# Altium integrated library Zilog Peripheral Bus Interface Controller.IntLib: 29 symbols
Pins are listed as number, name and electrical type; pins without a type are passive.

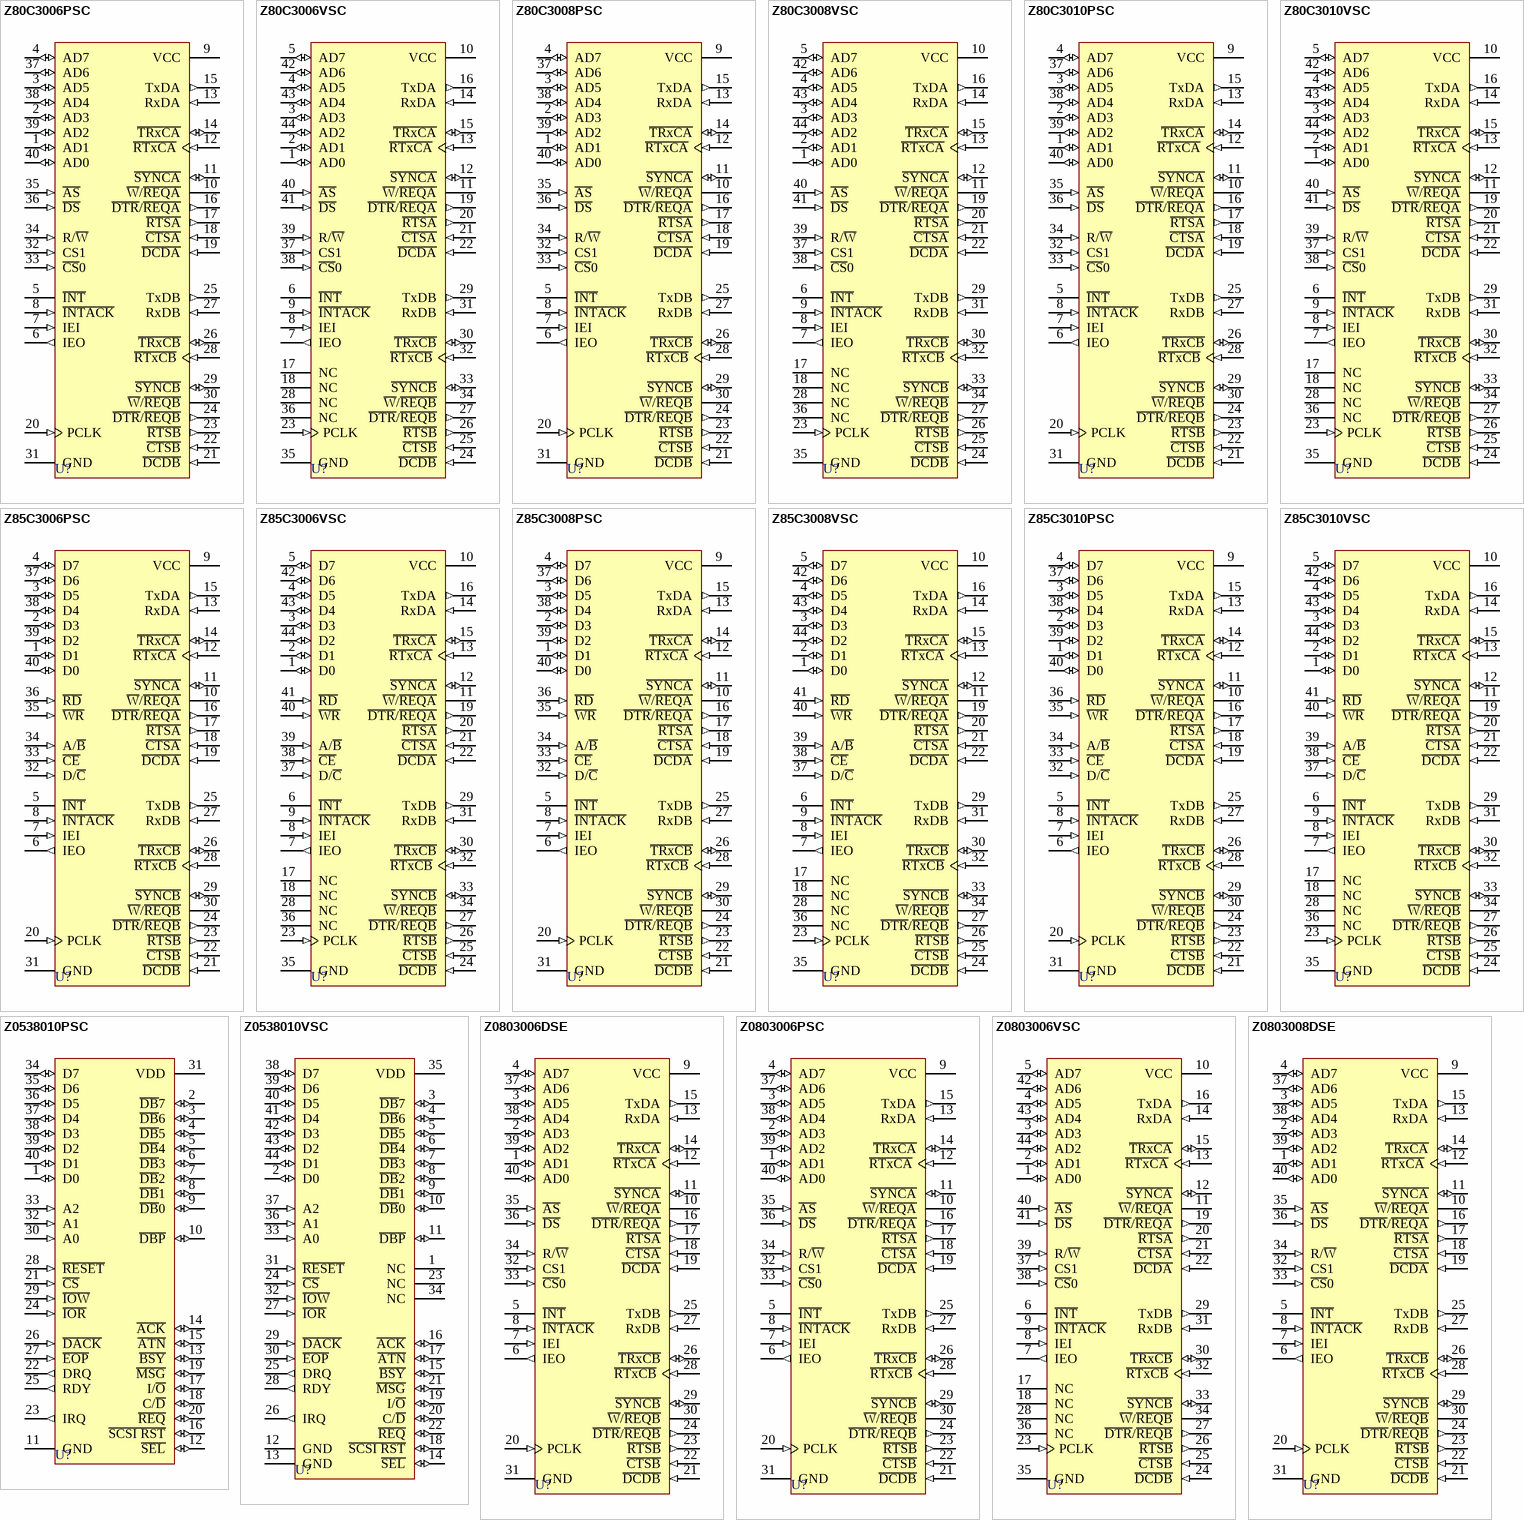
[diagram p0: symbols Z80C3006PSC to Z0803008DSE]

## Z80C3006PSC
designator U?
CMOS Z-Bus Serial Communications Controller; Published: 15-Apr-2002; LatestRevisionDate: 04-Mar-2005; LatestRevisionNote: Stylized 3D Model Added.; DatasheetVersion: 2001; PackageVersion: Jun-1999; PackageReference: PDIP40; Publisher: Altium Limited; PackageDescription: DIP; 40 Leads; Row Spacing 15.24 mm; Pitch 2.54 mm; ComponentLink1Description: Manufacturer Link; ComponentLink1URL: http://www.zilog.com/; ComponentLink2Description: Datasheet; ComponentLink2URL: http://www.zilog.com/docs/serial/scc_escc_um.pdf
footprint PDIP40 (DIP; 40 Leads; Row Spacing 15.24 mm; Pitch 2.54 mm)
3D model PDIP40 (DIP; 40 Leads; Row Spacing 15.24 mm; Pitch 2.54 mm)
pins: 1 AD1 (io), 2 AD3 (io), 3 AD5 (io), 4 AD7 (io), 5 ~{INT} (oc), 6 IEO (out), 7 IEI (in), 8 ~{INTACK} (in), 9 VCC (power), 10 ~{W}/~{REQA} (oc), 11 ~{SYNCA} (io), 12 ~{RTxCA} (in), 13 RxDA (in), 14 ~{TRxCA} (io), 15 TxDA (out), 16 ~{DTR}/~{REQA} (out), 17 ~{RTSA} (out), 18 ~{CTSA} (in), 19 ~{DCDA} (in), 20 PCLK (in), 21 ~{DCDB} (in), 22 ~{CTSB} (in), 23 ~{RTSB} (out), 24 ~{DTR}/~{REQB} (out), 25 TxDB (out), 26 ~{TRxCB} (io), 27 RxDB (in), 28 ~{RTxCB} (in), 29 ~{SYNCB} (io), 30 ~{W}/~{REQB} (oc), 31 GND (power), 32 CS1 (in), 33 ~{CS}0 (in), 34 R/~{W} (in), 35 ~{AS} (in), 36 ~{DS} (in), 37 AD6 (io), 38 AD4 (io), 39 AD2 (io), 40 AD0 (io)

## Z80C3006VSC
designator U?
CMOS Z-Bus Serial Communications Controller; Published: 15-Apr-2002; LatestRevisionDate: 13-Apr-2006; LatestRevisionNote: IPC-7351 Footprint Added.; DatasheetVersion: 2001; PackageReference: PCC44; Publisher: Altium Limited; PackageDescription: 44-Pin Leaded Chip Carrier 1.27 mm Pitch; Code_IPC: PLCC-44; ComponentLink1Description: Manufacturer Link; ComponentLink1URL: http://www.zilog.com/; ComponentLink2Description: Datasheet; ComponentLink2URL: http://www.zilog.com/docs/serial/scc_escc_um.pdf
footprint PCC44_N (Leaded Chip Carrier, 44-Leads, Body 16.6x16.6mm, Pitch 1.27mm, IPC Medium Density)
footprint PCC44_L (Leaded Chip Carrier, 44-Leads, Body 16.6x16.6mm, Pitch 1.27mm, IPC High Density)
footprint PCC44_M (Leaded Chip Carrier, 44-Leads, Body 16.6x16.6mm, Pitch 1.27mm, IPC Low Density)
3D model Z80C30-PCC44 (44-Pin Leaded Chip Carrier 1.27 mm Pitch)
pins: 1 AD0 (io), 2 AD1 (io), 3 AD3 (io), 4 AD5 (io), 5 AD7 (io), 6 ~{INT} (oc), 7 IEO (out), 8 IEI (in), 9 ~{INTACK} (in), 10 VCC (power), 11 ~{W}/~{REQA} (oc), 12 ~{SYNCA} (io), 13 ~{RTxCA} (in), 14 RxDA (in), 15 ~{TRxCA} (io), 16 TxDA (out), 17 NC, 18 NC, 19 ~{DTR}/~{REQA} (out), 20 ~{RTSA} (out), 21 ~{CTSA} (in), 22 ~{DCDA} (in), 23 PCLK (in), 24 ~{DCDB} (in), 25 ~{CTSB} (in), 26 ~{RTSB} (out), 27 ~{DTR}/~{REQB} (out), 28 NC, 29 TxDB (out), 30 ~{TRxCB} (io), 31 RxDB (in), 32 ~{RTxCB} (in), 33 ~{SYNCB} (io), 34 ~{W}/~{REQB} (oc), 35 GND (power), 36 NC, 37 CS1 (in), 38 ~{CS}0 (in), 39 R/~{W} (in), 40 ~{AS} (in), 41 ~{DS} (in), 42 AD6 (io), 43 AD4 (io), 44 AD2 (io)

## Z80C3008PSC
designator U?
CMOS Z-Bus Serial Communications Controller; Published: 15-Apr-2002; LatestRevisionDate: 04-Mar-2005; LatestRevisionNote: Stylized 3D Model Added.; DatasheetVersion: 2001; PackageVersion: Jun-1999; PackageReference: PDIP40; Publisher: Altium Limited; PackageDescription: DIP; 40 Leads; Row Spacing 15.24 mm; Pitch 2.54 mm; ComponentLink1Description: Manufacturer Link; ComponentLink1URL: http://www.zilog.com/; ComponentLink2Description: Datasheet; ComponentLink2URL: http://www.zilog.com/docs/serial/scc_escc_um.pdf
footprint PDIP40 (DIP; 40 Leads; Row Spacing 15.24 mm; Pitch 2.54 mm)
3D model PDIP40 (DIP; 40 Leads; Row Spacing 15.24 mm; Pitch 2.54 mm)
pins: 1 AD1 (io), 2 AD3 (io), 3 AD5 (io), 4 AD7 (io), 5 ~{INT} (oc), 6 IEO (out), 7 IEI (in), 8 ~{INTACK} (in), 9 VCC (power), 10 ~{W}/~{REQA} (oc), 11 ~{SYNCA} (io), 12 ~{RTxCA} (in), 13 RxDA (in), 14 ~{TRxCA} (io), 15 TxDA (out), 16 ~{DTR}/~{REQA} (out), 17 ~{RTSA} (out), 18 ~{CTSA} (in), 19 ~{DCDA} (in), 20 PCLK (in), 21 ~{DCDB} (in), 22 ~{CTSB} (in), 23 ~{RTSB} (out), 24 ~{DTR}/~{REQB} (out), 25 TxDB (out), 26 ~{TRxCB} (io), 27 RxDB (in), 28 ~{RTxCB} (in), 29 ~{SYNCB} (io), 30 ~{W}/~{REQB} (oc), 31 GND (power), 32 CS1 (in), 33 ~{CS}0 (in), 34 R/~{W} (in), 35 ~{AS} (in), 36 ~{DS} (in), 37 AD6 (io), 38 AD4 (io), 39 AD2 (io), 40 AD0 (io)

## Z80C3008VSC
designator U?
CMOS Z-Bus Serial Communications Controller; Published: 15-Apr-2002; LatestRevisionDate: 13-Apr-2006; LatestRevisionNote: IPC-7351 Footprint Added.; DatasheetVersion: 2001; PackageReference: PCC44; Publisher: Altium Limited; PackageDescription: 44-Pin Leaded Chip Carrier 1.27 mm Pitch; Code_IPC: PLCC-44; ComponentLink1Description: Manufacturer Link; ComponentLink1URL: http://www.zilog.com/; ComponentLink2Description: Datasheet; ComponentLink2URL: http://www.zilog.com/docs/serial/scc_escc_um.pdf
footprint PCC44_N (Leaded Chip Carrier, 44-Leads, Body 16.6x16.6mm, Pitch 1.27mm, IPC Medium Density)
footprint PCC44_L (Leaded Chip Carrier, 44-Leads, Body 16.6x16.6mm, Pitch 1.27mm, IPC High Density)
footprint PCC44_M (Leaded Chip Carrier, 44-Leads, Body 16.6x16.6mm, Pitch 1.27mm, IPC Low Density)
3D model Z80C30-PCC44 (44-Pin Leaded Chip Carrier 1.27 mm Pitch)
pins: 1 AD0 (io), 2 AD1 (io), 3 AD3 (io), 4 AD5 (io), 5 AD7 (io), 6 ~{INT} (oc), 7 IEO (out), 8 IEI (in), 9 ~{INTACK} (in), 10 VCC (power), 11 ~{W}/~{REQA} (oc), 12 ~{SYNCA} (io), 13 ~{RTxCA} (in), 14 RxDA (in), 15 ~{TRxCA} (io), 16 TxDA (out), 17 NC, 18 NC, 19 ~{DTR}/~{REQA} (out), 20 ~{RTSA} (out), 21 ~{CTSA} (in), 22 ~{DCDA} (in), 23 PCLK (in), 24 ~{DCDB} (in), 25 ~{CTSB} (in), 26 ~{RTSB} (out), 27 ~{DTR}/~{REQB} (out), 28 NC, 29 TxDB (out), 30 ~{TRxCB} (io), 31 RxDB (in), 32 ~{RTxCB} (in), 33 ~{SYNCB} (io), 34 ~{W}/~{REQB} (oc), 35 GND (power), 36 NC, 37 CS1 (in), 38 ~{CS}0 (in), 39 R/~{W} (in), 40 ~{AS} (in), 41 ~{DS} (in), 42 AD6 (io), 43 AD4 (io), 44 AD2 (io)

## Z80C3010PSC
designator U?
CMOS Z-Bus Serial Communications Controller; Published: 15-Apr-2002; LatestRevisionDate: 04-Mar-2005; LatestRevisionNote: Stylized 3D Model Added.; DatasheetVersion: 2001; PackageVersion: Jun-1999; PackageReference: PDIP40; Publisher: Altium Limited; PackageDescription: DIP; 40 Leads; Row Spacing 15.24 mm; Pitch 2.54 mm; ComponentLink1Description: Manufacturer Link; ComponentLink1URL: http://www.zilog.com/; ComponentLink2Description: Datasheet; ComponentLink2URL: http://www.zilog.com/docs/serial/scc_escc_um.pdf
footprint PDIP40 (DIP; 40 Leads; Row Spacing 15.24 mm; Pitch 2.54 mm)
3D model PDIP40 (DIP; 40 Leads; Row Spacing 15.24 mm; Pitch 2.54 mm)
pins: 1 AD1 (io), 2 AD3 (io), 3 AD5 (io), 4 AD7 (io), 5 ~{INT} (oc), 6 IEO (out), 7 IEI (in), 8 ~{INTACK} (in), 9 VCC (power), 10 ~{W}/~{REQA} (oc), 11 ~{SYNCA} (io), 12 ~{RTxCA} (in), 13 RxDA (in), 14 ~{TRxCA} (io), 15 TxDA (out), 16 ~{DTR}/~{REQA} (out), 17 ~{RTSA} (out), 18 ~{CTSA} (in), 19 ~{DCDA} (in), 20 PCLK (in), 21 ~{DCDB} (in), 22 ~{CTSB} (in), 23 ~{RTSB} (out), 24 ~{DTR}/~{REQB} (out), 25 TxDB (out), 26 ~{TRxCB} (io), 27 RxDB (in), 28 ~{RTxCB} (in), 29 ~{SYNCB} (io), 30 ~{W}/~{REQB} (oc), 31 GND (power), 32 CS1 (in), 33 ~{CS}0 (in), 34 R/~{W} (in), 35 ~{AS} (in), 36 ~{DS} (in), 37 AD6 (io), 38 AD4 (io), 39 AD2 (io), 40 AD0 (io)

## Z80C3010VSC
designator U?
CMOS Z-Bus Serial Communications Controller; Published: 15-Apr-2002; LatestRevisionDate: 13-Apr-2006; LatestRevisionNote: IPC-7351 Footprint Added.; DatasheetVersion: 2001; PackageReference: PCC44; Publisher: Altium Limited; PackageDescription: 44-Pin Leaded Chip Carrier 1.27 mm Pitch; Code_IPC: PLCC-44; ComponentLink1Description: Manufacturer Link; ComponentLink1URL: http://www.zilog.com/; ComponentLink2Description: Datasheet; ComponentLink2URL: http://www.zilog.com/docs/serial/scc_escc_um.pdf
footprint PCC44_N (Leaded Chip Carrier, 44-Leads, Body 16.6x16.6mm, Pitch 1.27mm, IPC Medium Density)
footprint PCC44_L (Leaded Chip Carrier, 44-Leads, Body 16.6x16.6mm, Pitch 1.27mm, IPC High Density)
footprint PCC44_M (Leaded Chip Carrier, 44-Leads, Body 16.6x16.6mm, Pitch 1.27mm, IPC Low Density)
3D model Z80C30-PCC44 (44-Pin Leaded Chip Carrier 1.27 mm Pitch)
pins: 1 AD0 (io), 2 AD1 (io), 3 AD3 (io), 4 AD5 (io), 5 AD7 (io), 6 ~{INT} (oc), 7 IEO (out), 8 IEI (in), 9 ~{INTACK} (in), 10 VCC (power), 11 ~{W}/~{REQA} (oc), 12 ~{SYNCA} (io), 13 ~{RTxCA} (in), 14 RxDA (in), 15 ~{TRxCA} (io), 16 TxDA (out), 17 NC, 18 NC, 19 ~{DTR}/~{REQA} (out), 20 ~{RTSA} (out), 21 ~{CTSA} (in), 22 ~{DCDA} (in), 23 PCLK (in), 24 ~{DCDB} (in), 25 ~{CTSB} (in), 26 ~{RTSB} (out), 27 ~{DTR}/~{REQB} (out), 28 NC, 29 TxDB (out), 30 ~{TRxCB} (io), 31 RxDB (in), 32 ~{RTxCB} (in), 33 ~{SYNCB} (io), 34 ~{W}/~{REQB} (oc), 35 GND (power), 36 NC, 37 CS1 (in), 38 ~{CS}0 (in), 39 R/~{W} (in), 40 ~{AS} (in), 41 ~{DS} (in), 42 AD6 (io), 43 AD4 (io), 44 AD2 (io)

## Z85C3006PSC
designator U?
CMOS Serial Communications Controller; Published: 15-Apr-2002; LatestRevisionDate: 04-Mar-2005; LatestRevisionNote: Stylized 3D Model Added.; DatasheetVersion: 2001; PackageVersion: Jun-1999; PackageReference: PDIP40; Publisher: Altium Limited; PackageDescription: DIP; 40 Leads; Row Spacing 15.24 mm; Pitch 2.54 mm; ComponentLink1Description: Manufacturer Link; ComponentLink1URL: http://www.zilog.com/; ComponentLink2Description: Datasheet; ComponentLink2URL: http://www.zilog.com/docs/serial/scc_escc_um.pdf
footprint PDIP40 (DIP; 40 Leads; Row Spacing 15.24 mm; Pitch 2.54 mm)
3D model PDIP40 (DIP; 40 Leads; Row Spacing 15.24 mm; Pitch 2.54 mm)
pins: 1 D1 (io), 2 D3 (io), 3 D5 (io), 4 D7 (io), 5 ~{INT} (oc), 6 IEO (out), 7 IEI (in), 8 ~{INTACK} (in), 9 VCC (power), 10 ~{W}/~{REQA} (oc), 11 ~{SYNCA} (io), 12 ~{RTxCA} (in), 13 RxDA (in), 14 ~{TRxCA} (io), 15 TxDA (out), 16 ~{DTR}/~{REQA} (out), 17 ~{RTSA} (out), 18 ~{CTSA} (in), 19 ~{DCDA} (in), 20 PCLK (in), 21 ~{DCDB} (in), 22 ~{CTSB} (in), 23 ~{RTSB} (out), 24 ~{DTR}/~{REQB} (out), 25 TxDB (out), 26 ~{TRxCB} (io), 27 RxDB (in), 28 ~{RTxCB} (in), 29 ~{SYNCB} (io), 30 ~{W}/~{REQB} (oc), 31 GND (power), 32 D/~{C} (in), 33 ~{CE} (in), 34 A/~{B} (in), 35 ~{WR} (in), 36 ~{RD} (in), 37 D6 (io), 38 D4 (io), 39 D2 (io), 40 D0 (io)

## Z85C3006VSC
designator U?
CMOS Serial Communications Controller; Published: 15-Apr-2002; LatestRevisionDate: 13-Apr-2006; LatestRevisionNote: IPC-7351 Footprint Added.; DatasheetVersion: 2001; PackageReference: PCC44; Publisher: Altium Limited; PackageDescription: 44-Pin Leaded Chip Carrier 1.27 mm Pitch; Code_IPC: PLCC-44; ComponentLink1Description: Manufacturer Link; ComponentLink1URL: http://www.zilog.com/; ComponentLink2Description: Datasheet; ComponentLink2URL: http://www.zilog.com/docs/serial/scc_escc_um.pdf
footprint PCC44_N (Leaded Chip Carrier, 44-Leads, Body 16.6x16.6mm, Pitch 1.27mm, IPC Medium Density)
footprint PCC44_L (Leaded Chip Carrier, 44-Leads, Body 16.6x16.6mm, Pitch 1.27mm, IPC High Density)
footprint PCC44_M (Leaded Chip Carrier, 44-Leads, Body 16.6x16.6mm, Pitch 1.27mm, IPC Low Density)
3D model Z85C30-PCC44 (44-Pin Leaded Chip Carrier 1.27 mm Pitch)
pins: 1 D0 (io), 2 D1 (io), 3 D3 (io), 4 D5 (io), 5 D7 (io), 6 ~{INT} (oc), 7 IEO (out), 8 IEI (in), 9 ~{INTACK} (in), 10 VCC (power), 11 ~{W}/~{REQA} (oc), 12 ~{SYNCA} (io), 13 ~{RTxCA} (in), 14 RxDA (in), 15 ~{TRxCA} (io), 16 TxDA (out), 17 NC, 18 NC, 19 ~{DTR}/~{REQA} (out), 20 ~{RTSA} (out), 21 ~{CTSA} (in), 22 ~{DCDA} (in), 23 PCLK (in), 24 ~{DCDB} (in), 25 ~{CTSB} (in), 26 ~{RTSB} (out), 27 ~{DTR}/~{REQB} (out), 28 NC, 29 TxDB (out), 30 ~{TRxCB} (io), 31 RxDB (in), 32 ~{RTxCB} (in), 33 ~{SYNCB} (io), 34 ~{W}/~{REQB} (oc), 35 GND (power), 36 NC, 37 D/~{C} (in), 38 ~{CE} (in), 39 A/~{B} (in), 40 ~{WR} (in), 41 ~{RD} (in), 42 D6 (io), 43 D4 (io), 44 D2 (io)

## Z85C3008PSC
designator U?
CMOS Serial Communications Controller; Published: 15-Apr-2002; LatestRevisionDate: 04-Mar-2005; LatestRevisionNote: Stylized 3D Model Added.; DatasheetVersion: 2001; PackageVersion: Jun-1999; PackageReference: PDIP40; Publisher: Altium Limited; PackageDescription: DIP; 40 Leads; Row Spacing 15.24 mm; Pitch 2.54 mm; ComponentLink1Description: Manufacturer Link; ComponentLink1URL: http://www.zilog.com/; ComponentLink2Description: Datasheet; ComponentLink2URL: http://www.zilog.com/docs/serial/scc_escc_um.pdf
footprint PDIP40 (DIP; 40 Leads; Row Spacing 15.24 mm; Pitch 2.54 mm)
3D model PDIP40 (DIP; 40 Leads; Row Spacing 15.24 mm; Pitch 2.54 mm)
pins: 1 D1 (io), 2 D3 (io), 3 D5 (io), 4 D7 (io), 5 ~{INT} (oc), 6 IEO (out), 7 IEI (in), 8 ~{INTACK} (in), 9 VCC (power), 10 ~{W}/~{REQA} (oc), 11 ~{SYNCA} (io), 12 ~{RTxCA} (in), 13 RxDA (in), 14 ~{TRxCA} (io), 15 TxDA (out), 16 ~{DTR}/~{REQA} (out), 17 ~{RTSA} (out), 18 ~{CTSA} (in), 19 ~{DCDA} (in), 20 PCLK (in), 21 ~{DCDB} (in), 22 ~{CTSB} (in), 23 ~{RTSB} (out), 24 ~{DTR}/~{REQB} (out), 25 TxDB (out), 26 ~{TRxCB} (io), 27 RxDB (in), 28 ~{RTxCB} (in), 29 ~{SYNCB} (io), 30 ~{W}/~{REQB} (oc), 31 GND (power), 32 D/~{C} (in), 33 ~{CE} (in), 34 A/~{B} (in), 35 ~{WR} (in), 36 ~{RD} (in), 37 D6 (io), 38 D4 (io), 39 D2 (io), 40 D0 (io)

## Z85C3008VSC
designator U?
CMOS Serial Communications Controller; Published: 15-Apr-2002; LatestRevisionDate: 13-Apr-2006; LatestRevisionNote: IPC-7351 Footprint Added.; DatasheetVersion: 2001; PackageReference: PCC44; Publisher: Altium Limited; PackageDescription: 44-Pin Leaded Chip Carrier 1.27 mm Pitch; Code_IPC: PLCC-44; ComponentLink1Description: Manufacturer Link; ComponentLink1URL: http://www.zilog.com/; ComponentLink2Description: Datasheet; ComponentLink2URL: http://www.zilog.com/docs/serial/scc_escc_um.pdf
footprint PCC44_N (Leaded Chip Carrier, 44-Leads, Body 16.6x16.6mm, Pitch 1.27mm, IPC Medium Density)
footprint PCC44_L (Leaded Chip Carrier, 44-Leads, Body 16.6x16.6mm, Pitch 1.27mm, IPC High Density)
footprint PCC44_M (Leaded Chip Carrier, 44-Leads, Body 16.6x16.6mm, Pitch 1.27mm, IPC Low Density)
3D model Z85C30-PCC44 (44-Pin Leaded Chip Carrier 1.27 mm Pitch)
pins: 1 D0 (io), 2 D1 (io), 3 D3 (io), 4 D5 (io), 5 D7 (io), 6 ~{INT} (oc), 7 IEO (out), 8 IEI (in), 9 ~{INTACK} (in), 10 VCC (power), 11 ~{W}/~{REQA} (oc), 12 ~{SYNCA} (io), 13 ~{RTxCA} (in), 14 RxDA (in), 15 ~{TRxCA} (io), 16 TxDA (out), 17 NC, 18 NC, 19 ~{DTR}/~{REQA} (out), 20 ~{RTSA} (out), 21 ~{CTSA} (in), 22 ~{DCDA} (in), 23 PCLK (in), 24 ~{DCDB} (in), 25 ~{CTSB} (in), 26 ~{RTSB} (out), 27 ~{DTR}/~{REQB} (out), 28 NC, 29 TxDB (out), 30 ~{TRxCB} (io), 31 RxDB (in), 32 ~{RTxCB} (in), 33 ~{SYNCB} (io), 34 ~{W}/~{REQB} (oc), 35 GND (power), 36 NC, 37 D/~{C} (in), 38 ~{CE} (in), 39 A/~{B} (in), 40 ~{WR} (in), 41 ~{RD} (in), 42 D6 (io), 43 D4 (io), 44 D2 (io)

## Z85C3010PSC
designator U?
CMOS Serial Communications Controller; Published: 15-Apr-2002; LatestRevisionDate: 04-Mar-2005; LatestRevisionNote: Stylized 3D Model Added.; DatasheetVersion: 2001; PackageVersion: Jun-1999; PackageReference: PDIP40; Publisher: Altium Limited; PackageDescription: DIP; 40 Leads; Row Spacing 15.24 mm; Pitch 2.54 mm; ComponentLink1Description: Manufacturer Link; ComponentLink1URL: http://www.zilog.com/; ComponentLink2Description: Datasheet; ComponentLink2URL: http://www.zilog.com/docs/serial/scc_escc_um.pdf
footprint PDIP40 (DIP; 40 Leads; Row Spacing 15.24 mm; Pitch 2.54 mm)
3D model PDIP40 (DIP; 40 Leads; Row Spacing 15.24 mm; Pitch 2.54 mm)
pins: 1 D1 (io), 2 D3 (io), 3 D5 (io), 4 D7 (io), 5 ~{INT} (oc), 6 IEO (out), 7 IEI (in), 8 ~{INTACK} (in), 9 VCC (power), 10 ~{W}/~{REQA} (oc), 11 ~{SYNCA} (io), 12 ~{RTxCA} (in), 13 RxDA (in), 14 ~{TRxCA} (io), 15 TxDA (out), 16 ~{DTR}/~{REQA} (out), 17 ~{RTSA} (out), 18 ~{CTSA} (in), 19 ~{DCDA} (in), 20 PCLK (in), 21 ~{DCDB} (in), 22 ~{CTSB} (in), 23 ~{RTSB} (out), 24 ~{DTR}/~{REQB} (out), 25 TxDB (out), 26 ~{TRxCB} (io), 27 RxDB (in), 28 ~{RTxCB} (in), 29 ~{SYNCB} (io), 30 ~{W}/~{REQB} (oc), 31 GND (power), 32 D/~{C} (in), 33 ~{CE} (in), 34 A/~{B} (in), 35 ~{WR} (in), 36 ~{RD} (in), 37 D6 (io), 38 D4 (io), 39 D2 (io), 40 D0 (io)

## Z85C3010VSC
designator U?
CMOS Serial Communications Controller; Published: 15-Apr-2002; LatestRevisionDate: 13-Apr-2006; LatestRevisionNote: IPC-7351 Footprint Added.; DatasheetVersion: 2001; PackageReference: PCC44; Publisher: Altium Limited; PackageDescription: 44-Pin Leaded Chip Carrier 1.27 mm Pitch; Code_IPC: PLCC-44; ComponentLink1Description: Manufacturer Link; ComponentLink1URL: http://www.zilog.com/; ComponentLink2Description: Datasheet; ComponentLink2URL: http://www.zilog.com/docs/serial/scc_escc_um.pdf
footprint PCC44_N (Leaded Chip Carrier, 44-Leads, Body 16.6x16.6mm, Pitch 1.27mm, IPC Medium Density)
footprint PCC44_L (Leaded Chip Carrier, 44-Leads, Body 16.6x16.6mm, Pitch 1.27mm, IPC High Density)
footprint PCC44_M (Leaded Chip Carrier, 44-Leads, Body 16.6x16.6mm, Pitch 1.27mm, IPC Low Density)
3D model Z85C30-PCC44 (44-Pin Leaded Chip Carrier 1.27 mm Pitch)
pins: 1 D0 (io), 2 D1 (io), 3 D3 (io), 4 D5 (io), 5 D7 (io), 6 ~{INT} (oc), 7 IEO (out), 8 IEI (in), 9 ~{INTACK} (in), 10 VCC (power), 11 ~{W}/~{REQA} (oc), 12 ~{SYNCA} (io), 13 ~{RTxCA} (in), 14 RxDA (in), 15 ~{TRxCA} (io), 16 TxDA (out), 17 NC, 18 NC, 19 ~{DTR}/~{REQA} (out), 20 ~{RTSA} (out), 21 ~{CTSA} (in), 22 ~{DCDA} (in), 23 PCLK (in), 24 ~{DCDB} (in), 25 ~{CTSB} (in), 26 ~{RTSB} (out), 27 ~{DTR}/~{REQB} (out), 28 NC, 29 TxDB (out), 30 ~{TRxCB} (io), 31 RxDB (in), 32 ~{RTxCB} (in), 33 ~{SYNCB} (io), 34 ~{W}/~{REQB} (oc), 35 GND (power), 36 NC, 37 D/~{C} (in), 38 ~{CE} (in), 39 A/~{B} (in), 40 ~{WR} (in), 41 ~{RD} (in), 42 D6 (io), 43 D4 (io), 44 D2 (io)

## Z0538010PSC
designator U?
SCSI Controller; Published: 15-Apr-2002; LatestRevisionDate: 04-Mar-2005; LatestRevisionNote: Stylized 3D Model Added.; DatasheetVersion: 1997; PackageVersion: Jun-1999; PackageReference: PDIP40; Publisher: Altium Limited; PackageDescription: DIP; 40 Leads; Row Spacing 15.24 mm; Pitch 2.54 mm; ComponentLink1Description: Manufacturer Link; ComponentLink1URL: http://www.zilog.com/
footprint PDIP40 (DIP; 40 Leads; Row Spacing 15.24 mm; Pitch 2.54 mm)
3D model PDIP40 (DIP; 40 Leads; Row Spacing 15.24 mm; Pitch 2.54 mm)
pins: 1 D0 (io), 2 ~{DB}7 (io), 3 ~{DB}6 (io), 4 ~{DB}5 (io), 5 ~{DB}4 (io), 6 ~{DB}3 (io), 7 ~{DB}2 (io), 8 ~{DB}1 (io), 9 ~{DB}0 (io), 10 ~{DBP} (io), 11 GND (power), 12 ~{SEL} (io), 13 ~{BSY} (io), 14 ~{ACK} (io), 15 ~{ATN} (io), 16 ~{SCSI RST} (io), 17 I/~{O} (io), 18 C/~{D} (io), 19 ~{MSG} (io), 20 ~{REQ} (io), 21 ~{CS} (in), 22 DRQ (out), 23 IRQ (out), 24 ~{IOR} (in), 25 RDY (out), 26 ~{DACK} (in), 27 ~{EOP} (in), 28 ~{RESET} (in), 29 ~{IOW} (in), 30 A0 (in), 31 VDD (power), 32 A1 (in), 33 A2 (in), 34 D7 (io), 35 D6 (io), 36 D5 (io), 37 D4 (io), 38 D3 (io), 39 D2 (io), 40 D1 (io)

## Z0538010VSC
designator U?
SCSI Controller; Published: 15-Apr-2002; LatestRevisionDate: 13-Apr-2006; LatestRevisionNote: IPC-7351 Footprint Added.; DatasheetVersion: 1997; PackageReference: PCC44; Publisher: Altium Limited; PackageDescription: 44-Pin Leaded Chip Carrier 1.27 mm Pitch; Code_IPC: PLCC-44; ComponentLink1Description: Manufacturer Link; ComponentLink1URL: http://www.zilog.com/
footprint PCC44_N (Leaded Chip Carrier, 44-Leads, Body 16.6x16.6mm, Pitch 1.27mm, IPC Medium Density)
footprint PCC44_L (Leaded Chip Carrier, 44-Leads, Body 16.6x16.6mm, Pitch 1.27mm, IPC High Density)
footprint PCC44_M (Leaded Chip Carrier, 44-Leads, Body 16.6x16.6mm, Pitch 1.27mm, IPC Low Density)
3D model Z05380-PCC44 (44-Pin Leaded Chip Carrier 1.27 mm Pitch)
pins: 1 NC, 2 D0 (io), 3 ~{DB}7 (io), 4 ~{DB}6 (io), 5 ~{DB}5 (io), 6 ~{DB}4 (io), 7 ~{DB}3 (io), 8 ~{DB}2 (io), 9 ~{DB}1 (io), 10 ~{DB}0 (io), 11 ~{DBP} (io), 12 GND (power), 13 GND (power), 14 ~{SEL} (io), 15 ~{BSY} (io), 16 ~{ACK} (io), 17 ~{ATN} (io), 18 ~{SCSI RST} (io), 19 I/~{O} (io), 20 C/~{D} (io), 21 ~{MSG} (io), 22 ~{REQ} (io), 23 NC, 24 ~{CS} (in), 25 DRQ (out), 26 IRQ (out), 27 ~{IOR} (in), 28 RDY (out), 29 ~{DACK} (in), 30 ~{EOP} (in), 31 ~{RESET} (in), 32 ~{IOW} (in), 33 A0 (in), 34 NC, 35 VDD (power), 36 A1 (in), 37 A2 (in), 38 D7 (io), 39 D6 (io), 40 D5 (io), 41 D4 (io), 42 D3 (io), 43 D2 (io), 44 D1 (io)

## Z0803006DSE
designator U?
Z-Bus Serial Communications Controller; Published: 15-Apr-2002; LatestRevisionDate: 04-Mar-2005; LatestRevisionNote: Stylized 3D Model Added.; DatasheetVersion: 2001; PackageVersion: 1999; PackageReference: CerDIP40; Publisher: Altium Limited; PackageDescription: DIP; 40 Leads; Row Spacing 15.24 mm; Pitch 2.54 mm; ComponentLink1Description: Manufacturer Link; ComponentLink1URL: http://www.zilog.com/; ComponentLink2Description: Datasheet; ComponentLink2URL: http://www.zilog.com/docs/serial/scc_escc_um.pdf
footprint CerDIP40 (DIP; 40 Leads; Row Spacing 15.24 mm; Pitch 2.54 mm)
3D model PDIP40 (DIP; 40 Leads; Row Spacing 15.24 mm; Pitch 2.54 mm)
pins: 1 AD1 (io), 2 AD3 (io), 3 AD5 (io), 4 AD7 (io), 5 ~{INT} (oc), 6 IEO (out), 7 IEI (in), 8 ~{INTACK} (in), 9 VCC (power), 10 ~{W}/~{REQA} (oc), 11 ~{SYNCA} (io), 12 ~{RTxCA} (in), 13 RxDA (in), 14 ~{TRxCA} (io), 15 TxDA (out), 16 ~{DTR}/~{REQA} (out), 17 ~{RTSA} (out), 18 ~{CTSA} (in), 19 ~{DCDA} (in), 20 PCLK (in), 21 ~{DCDB} (in), 22 ~{CTSB} (in), 23 ~{RTSB} (out), 24 ~{DTR}/~{REQB} (out), 25 TxDB (out), 26 ~{TRxCB} (io), 27 RxDB (in), 28 ~{RTxCB} (in), 29 ~{SYNCB} (io), 30 ~{W}/~{REQB} (oc), 31 GND (power), 32 CS1 (in), 33 ~{CS}0 (in), 34 R/~{W} (in), 35 ~{AS} (in), 36 ~{DS} (in), 37 AD6 (io), 38 AD4 (io), 39 AD2 (io), 40 AD0 (io)

## Z0803006PSC
designator U?
Z-Bus Serial Communications Controller; Published: 15-Apr-2002; LatestRevisionDate: 04-Mar-2005; LatestRevisionNote: Stylized 3D Model Added.; DatasheetVersion: 2001; PackageVersion: Jun-1999; PackageReference: PDIP40; Publisher: Altium Limited; PackageDescription: DIP; 40 Leads; Row Spacing 15.24 mm; Pitch 2.54 mm; ComponentLink1Description: Manufacturer Link; ComponentLink1URL: http://www.zilog.com/; ComponentLink2Description: Datasheet; ComponentLink2URL: http://www.zilog.com/docs/serial/scc_escc_um.pdf
footprint PDIP40 (DIP; 40 Leads; Row Spacing 15.24 mm; Pitch 2.54 mm)
3D model PDIP40 (DIP; 40 Leads; Row Spacing 15.24 mm; Pitch 2.54 mm)
pins: 1 AD1 (io), 2 AD3 (io), 3 AD5 (io), 4 AD7 (io), 5 ~{INT} (oc), 6 IEO (out), 7 IEI (in), 8 ~{INTACK} (in), 9 VCC (power), 10 ~{W}/~{REQA} (oc), 11 ~{SYNCA} (io), 12 ~{RTxCA} (in), 13 RxDA (in), 14 ~{TRxCA} (io), 15 TxDA (out), 16 ~{DTR}/~{REQA} (out), 17 ~{RTSA} (out), 18 ~{CTSA} (in), 19 ~{DCDA} (in), 20 PCLK (in), 21 ~{DCDB} (in), 22 ~{CTSB} (in), 23 ~{RTSB} (out), 24 ~{DTR}/~{REQB} (out), 25 TxDB (out), 26 ~{TRxCB} (io), 27 RxDB (in), 28 ~{RTxCB} (in), 29 ~{SYNCB} (io), 30 ~{W}/~{REQB} (oc), 31 GND (power), 32 CS1 (in), 33 ~{CS}0 (in), 34 R/~{W} (in), 35 ~{AS} (in), 36 ~{DS} (in), 37 AD6 (io), 38 AD4 (io), 39 AD2 (io), 40 AD0 (io)

## Z0803006VSC
designator U?
Z-Bus Serial Communications Controller; Published: 15-Apr-2002; LatestRevisionDate: 13-Apr-2006; LatestRevisionNote: IPC-7351 Footprint Added.; DatasheetVersion: 2001; PackageReference: PCC44; Publisher: Altium Limited; PackageDescription: 44-Pin Leaded Chip Carrier 1.27 mm Pitch; Code_IPC: PLCC-44; ComponentLink1Description: Manufacturer Link; ComponentLink1URL: http://www.zilog.com/; ComponentLink2Description: Datasheet; ComponentLink2URL: http://www.zilog.com/docs/serial/scc_escc_um.pdf
footprint PCC44_N (Leaded Chip Carrier, 44-Leads, Body 16.6x16.6mm, Pitch 1.27mm, IPC Medium Density)
footprint PCC44_L (Leaded Chip Carrier, 44-Leads, Body 16.6x16.6mm, Pitch 1.27mm, IPC High Density)
footprint PCC44_M (Leaded Chip Carrier, 44-Leads, Body 16.6x16.6mm, Pitch 1.27mm, IPC Low Density)
3D model Z08030-PCC44 (44-Pin Leaded Chip Carrier 1.27 mm Pitch)
pins: 1 AD0 (io), 2 AD1 (io), 3 AD3 (io), 4 AD5 (io), 5 AD7 (io), 6 ~{INT} (oc), 7 IEO (out), 8 IEI (in), 9 ~{INTACK} (in), 10 VCC (power), 11 ~{W}/~{REQA} (oc), 12 ~{SYNCA} (io), 13 ~{RTxCA} (in), 14 RxDA (in), 15 ~{TRxCA} (io), 16 TxDA (out), 17 NC, 18 NC, 19 ~{DTR}/~{REQA} (out), 20 ~{RTSA} (out), 21 ~{CTSA} (in), 22 ~{DCDA} (in), 23 PCLK (in), 24 ~{DCDB} (in), 25 ~{CTSB} (in), 26 ~{RTSB} (out), 27 ~{DTR}/~{REQB} (out), 28 NC, 29 TxDB (out), 30 ~{TRxCB} (io), 31 RxDB (in), 32 ~{RTxCB} (in), 33 ~{SYNCB} (io), 34 ~{W}/~{REQB} (oc), 35 GND (power), 36 NC, 37 CS1 (in), 38 ~{CS}0 (in), 39 R/~{W} (in), 40 ~{AS} (in), 41 ~{DS} (in), 42 AD6 (io), 43 AD4 (io), 44 AD2 (io)

## Z0803008DSE
designator U?
Z-Bus Serial Communications Controller; Published: 15-Apr-2002; LatestRevisionDate: 04-Mar-2005; LatestRevisionNote: Stylized 3D Model Added.; DatasheetVersion: 2001; PackageVersion: 1999; PackageReference: CerDIP40; Publisher: Altium Limited; PackageDescription: DIP; 40 Leads; Row Spacing 15.24 mm; Pitch 2.54 mm; ComponentLink1Description: Manufacturer Link; ComponentLink1URL: http://www.zilog.com/; ComponentLink2Description: Datasheet; ComponentLink2URL: http://www.zilog.com/docs/serial/scc_escc_um.pdf
footprint CerDIP40 (DIP; 40 Leads; Row Spacing 15.24 mm; Pitch 2.54 mm)
3D model PDIP40 (DIP; 40 Leads; Row Spacing 15.24 mm; Pitch 2.54 mm)
pins: 1 AD1 (io), 2 AD3 (io), 3 AD5 (io), 4 AD7 (io), 5 ~{INT} (oc), 6 IEO (out), 7 IEI (in), 8 ~{INTACK} (in), 9 VCC (power), 10 ~{W}/~{REQA} (oc), 11 ~{SYNCA} (io), 12 ~{RTxCA} (in), 13 RxDA (in), 14 ~{TRxCA} (io), 15 TxDA (out), 16 ~{DTR}/~{REQA} (out), 17 ~{RTSA} (out), 18 ~{CTSA} (in), 19 ~{DCDA} (in), 20 PCLK (in), 21 ~{DCDB} (in), 22 ~{CTSB} (in), 23 ~{RTSB} (out), 24 ~{DTR}/~{REQB} (out), 25 TxDB (out), 26 ~{TRxCB} (io), 27 RxDB (in), 28 ~{RTxCB} (in), 29 ~{SYNCB} (io), 30 ~{W}/~{REQB} (oc), 31 GND (power), 32 CS1 (in), 33 ~{CS}0 (in), 34 R/~{W} (in), 35 ~{AS} (in), 36 ~{DS} (in), 37 AD6 (io), 38 AD4 (io), 39 AD2 (io), 40 AD0 (io)

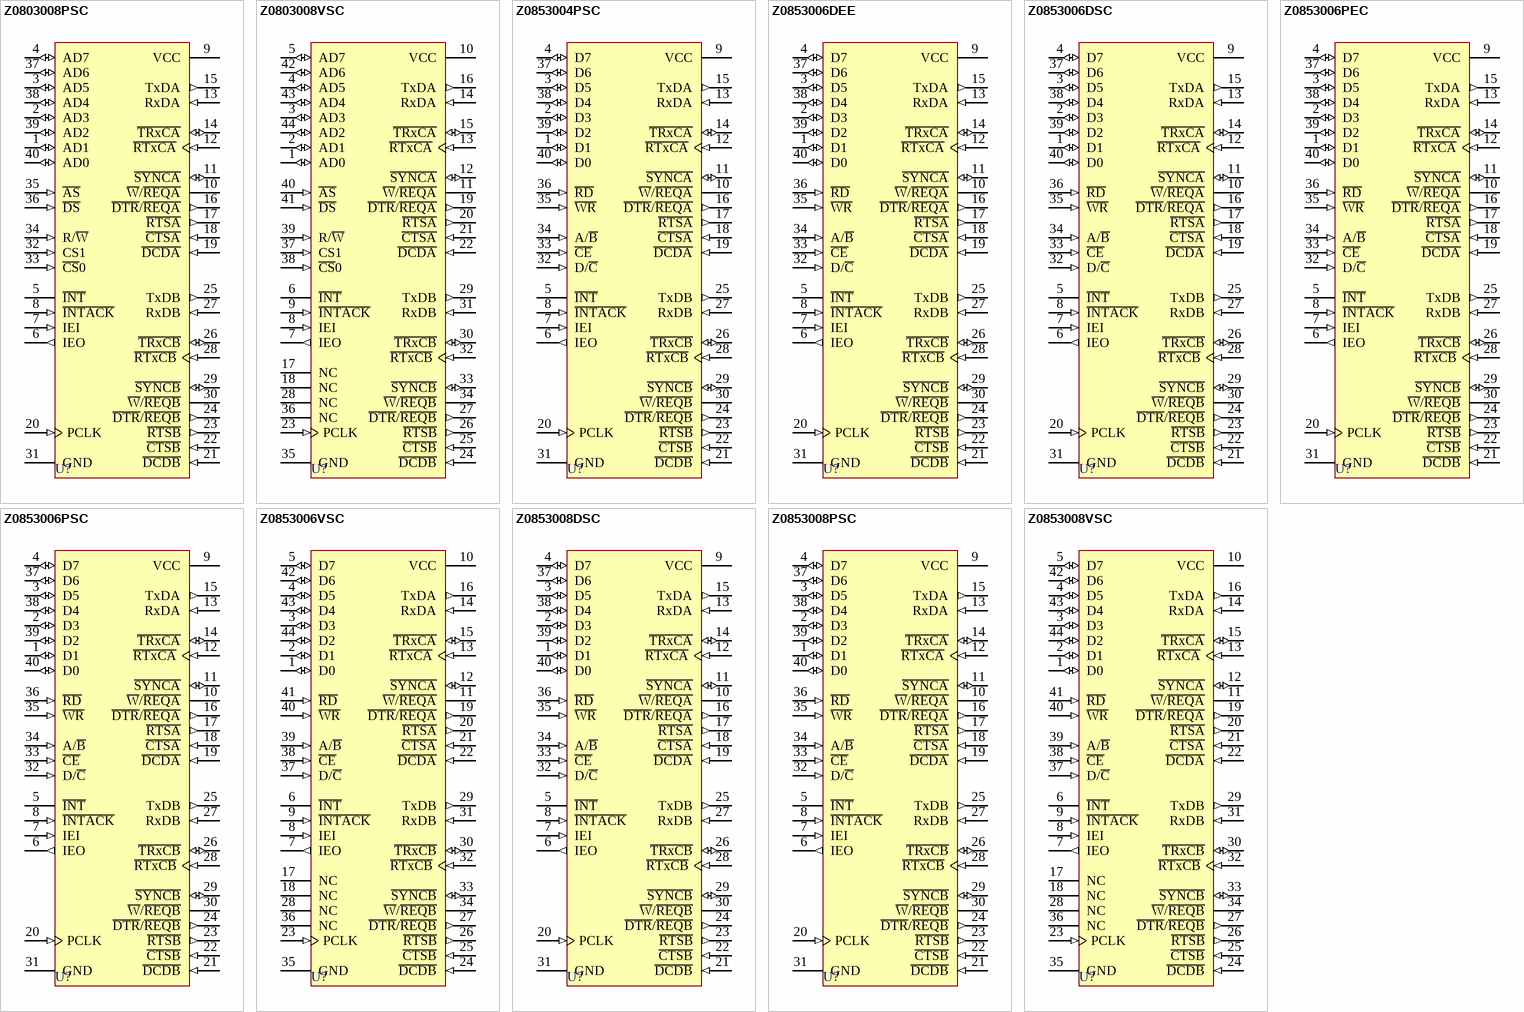
[diagram p1: symbols Z0803008PSC to Z0853008VSC]

## Z0803008PSC
designator U?
Z-Bus Serial Communications Controller; Published: 15-Apr-2002; LatestRevisionDate: 04-Mar-2005; LatestRevisionNote: Stylized 3D Model Added.; DatasheetVersion: 2001; PackageVersion: Jun-1999; PackageReference: PDIP40; Publisher: Altium Limited; PackageDescription: DIP; 40 Leads; Row Spacing 15.24 mm; Pitch 2.54 mm; ComponentLink1Description: Manufacturer Link; ComponentLink1URL: http://www.zilog.com/; ComponentLink2Description: Datasheet; ComponentLink2URL: http://www.zilog.com/docs/serial/scc_escc_um.pdf
footprint PDIP40 (DIP; 40 Leads; Row Spacing 15.24 mm; Pitch 2.54 mm)
3D model PDIP40 (DIP; 40 Leads; Row Spacing 15.24 mm; Pitch 2.54 mm)
pins: 1 AD1 (io), 2 AD3 (io), 3 AD5 (io), 4 AD7 (io), 5 ~{INT} (oc), 6 IEO (out), 7 IEI (in), 8 ~{INTACK} (in), 9 VCC (power), 10 ~{W}/~{REQA} (oc), 11 ~{SYNCA} (io), 12 ~{RTxCA} (in), 13 RxDA (in), 14 ~{TRxCA} (io), 15 TxDA (out), 16 ~{DTR}/~{REQA} (out), 17 ~{RTSA} (out), 18 ~{CTSA} (in), 19 ~{DCDA} (in), 20 PCLK (in), 21 ~{DCDB} (in), 22 ~{CTSB} (in), 23 ~{RTSB} (out), 24 ~{DTR}/~{REQB} (out), 25 TxDB (out), 26 ~{TRxCB} (io), 27 RxDB (in), 28 ~{RTxCB} (in), 29 ~{SYNCB} (io), 30 ~{W}/~{REQB} (oc), 31 GND (power), 32 CS1 (in), 33 ~{CS}0 (in), 34 R/~{W} (in), 35 ~{AS} (in), 36 ~{DS} (in), 37 AD6 (io), 38 AD4 (io), 39 AD2 (io), 40 AD0 (io)

## Z0803008VSC
designator U?
Z-Bus Serial Communications Controller; Published: 15-Apr-2002; LatestRevisionDate: 13-Apr-2006; LatestRevisionNote: IPC-7351 Footprint Added.; DatasheetVersion: 2001; PackageReference: PCC44; Publisher: Altium Limited; PackageDescription: 44-Pin Leaded Chip Carrier 1.27 mm Pitch; Code_IPC: PLCC-44; ComponentLink1Description: Manufacturer Link; ComponentLink1URL: http://www.zilog.com/; ComponentLink2Description: Datasheet; ComponentLink2URL: http://www.zilog.com/docs/serial/scc_escc_um.pdf
footprint PCC44_N (Leaded Chip Carrier, 44-Leads, Body 16.6x16.6mm, Pitch 1.27mm, IPC Medium Density)
footprint PCC44_L (Leaded Chip Carrier, 44-Leads, Body 16.6x16.6mm, Pitch 1.27mm, IPC High Density)
footprint PCC44_M (Leaded Chip Carrier, 44-Leads, Body 16.6x16.6mm, Pitch 1.27mm, IPC Low Density)
3D model Z08030-PCC44 (44-Pin Leaded Chip Carrier 1.27 mm Pitch)
pins: 1 AD0 (io), 2 AD1 (io), 3 AD3 (io), 4 AD5 (io), 5 AD7 (io), 6 ~{INT} (oc), 7 IEO (out), 8 IEI (in), 9 ~{INTACK} (in), 10 VCC (power), 11 ~{W}/~{REQA} (oc), 12 ~{SYNCA} (io), 13 ~{RTxCA} (in), 14 RxDA (in), 15 ~{TRxCA} (io), 16 TxDA (out), 17 NC, 18 NC, 19 ~{DTR}/~{REQA} (out), 20 ~{RTSA} (out), 21 ~{CTSA} (in), 22 ~{DCDA} (in), 23 PCLK (in), 24 ~{DCDB} (in), 25 ~{CTSB} (in), 26 ~{RTSB} (out), 27 ~{DTR}/~{REQB} (out), 28 NC, 29 TxDB (out), 30 ~{TRxCB} (io), 31 RxDB (in), 32 ~{RTxCB} (in), 33 ~{SYNCB} (io), 34 ~{W}/~{REQB} (oc), 35 GND (power), 36 NC, 37 CS1 (in), 38 ~{CS}0 (in), 39 R/~{W} (in), 40 ~{AS} (in), 41 ~{DS} (in), 42 AD6 (io), 43 AD4 (io), 44 AD2 (io)

## Z0853004PSC
designator U?
Serial Communications Controller; Published: 15-Apr-2002; LatestRevisionDate: 04-Mar-2005; LatestRevisionNote: Stylized 3D Model Added.; DatasheetVersion: 2001; PackageVersion: Jun-1999; PackageReference: PDIP40; Publisher: Altium Limited; PackageDescription: DIP; 40 Leads; Row Spacing 15.24 mm; Pitch 2.54 mm; ComponentLink1Description: Manufacturer Link; ComponentLink1URL: http://www.zilog.com/; ComponentLink2Description: Datasheet; ComponentLink2URL: http://www.zilog.com/docs/serial/scc_escc_um.pdf
footprint PDIP40 (DIP; 40 Leads; Row Spacing 15.24 mm; Pitch 2.54 mm)
3D model PDIP40 (DIP; 40 Leads; Row Spacing 15.24 mm; Pitch 2.54 mm)
pins: 1 D1 (io), 2 D3 (io), 3 D5 (io), 4 D7 (io), 5 ~{INT} (oc), 6 IEO (out), 7 IEI (in), 8 ~{INTACK} (in), 9 VCC (power), 10 ~{W}/~{REQA} (oc), 11 ~{SYNCA} (io), 12 ~{RTxCA} (in), 13 RxDA (in), 14 ~{TRxCA} (io), 15 TxDA (out), 16 ~{DTR}/~{REQA} (out), 17 ~{RTSA} (out), 18 ~{CTSA} (in), 19 ~{DCDA} (in), 20 PCLK (in), 21 ~{DCDB} (in), 22 ~{CTSB} (in), 23 ~{RTSB} (out), 24 ~{DTR}/~{REQB} (out), 25 TxDB (out), 26 ~{TRxCB} (io), 27 RxDB (in), 28 ~{RTxCB} (in), 29 ~{SYNCB} (io), 30 ~{W}/~{REQB} (oc), 31 GND (power), 32 D/~{C} (in), 33 ~{CE} (in), 34 A/~{B} (in), 35 ~{WR} (in), 36 ~{RD} (in), 37 D6 (io), 38 D4 (io), 39 D2 (io), 40 D0 (io)

## Z0853006DEE
designator U?
Serial Communications Controller; Published: 15-Apr-2002; LatestRevisionDate: 04-Mar-2005; LatestRevisionNote: Stylized 3D Model Added.; DatasheetVersion: 2001; PackageVersion: 1999; PackageReference: CerDIP40; Publisher: Altium Limited; PackageDescription: DIP; 40 Leads; Row Spacing 15.24 mm; Pitch 2.54 mm; ComponentLink1Description: Manufacturer Link; ComponentLink1URL: http://www.zilog.com/; ComponentLink2Description: Datasheet; ComponentLink2URL: http://www.zilog.com/docs/serial/scc_escc_um.pdf
footprint CerDIP40 (DIP; 40 Leads; Row Spacing 15.24 mm; Pitch 2.54 mm)
3D model PDIP40 (DIP; 40 Leads; Row Spacing 15.24 mm; Pitch 2.54 mm)
pins: 1 D1 (io), 2 D3 (io), 3 D5 (io), 4 D7 (io), 5 ~{INT} (oc), 6 IEO (out), 7 IEI (in), 8 ~{INTACK} (in), 9 VCC (power), 10 ~{W}/~{REQA} (oc), 11 ~{SYNCA} (io), 12 ~{RTxCA} (in), 13 RxDA (in), 14 ~{TRxCA} (io), 15 TxDA (out), 16 ~{DTR}/~{REQA} (out), 17 ~{RTSA} (out), 18 ~{CTSA} (in), 19 ~{DCDA} (in), 20 PCLK (in), 21 ~{DCDB} (in), 22 ~{CTSB} (in), 23 ~{RTSB} (out), 24 ~{DTR}/~{REQB} (out), 25 TxDB (out), 26 ~{TRxCB} (io), 27 RxDB (in), 28 ~{RTxCB} (in), 29 ~{SYNCB} (io), 30 ~{W}/~{REQB} (oc), 31 GND (power), 32 D/~{C} (in), 33 ~{CE} (in), 34 A/~{B} (in), 35 ~{WR} (in), 36 ~{RD} (in), 37 D6 (io), 38 D4 (io), 39 D2 (io), 40 D0 (io)

## Z0853006DSC
designator U?
Serial Communications Controller; Published: 15-Apr-2002; LatestRevisionDate: 04-Mar-2005; LatestRevisionNote: Stylized 3D Model Added.; DatasheetVersion: 2001; PackageVersion: 1999; PackageReference: CerDIP40; Publisher: Altium Limited; PackageDescription: DIP; 40 Leads; Row Spacing 15.24 mm; Pitch 2.54 mm; ComponentLink1Description: Manufacturer Link; ComponentLink1URL: http://www.zilog.com/; ComponentLink2Description: Datasheet; ComponentLink2URL: http://www.zilog.com/docs/serial/scc_escc_um.pdf
footprint CerDIP40 (DIP; 40 Leads; Row Spacing 15.24 mm; Pitch 2.54 mm)
3D model PDIP40 (DIP; 40 Leads; Row Spacing 15.24 mm; Pitch 2.54 mm)
pins: 1 D1 (io), 2 D3 (io), 3 D5 (io), 4 D7 (io), 5 ~{INT} (oc), 6 IEO (out), 7 IEI (in), 8 ~{INTACK} (in), 9 VCC (power), 10 ~{W}/~{REQA} (oc), 11 ~{SYNCA} (io), 12 ~{RTxCA} (in), 13 RxDA (in), 14 ~{TRxCA} (io), 15 TxDA (out), 16 ~{DTR}/~{REQA} (out), 17 ~{RTSA} (out), 18 ~{CTSA} (in), 19 ~{DCDA} (in), 20 PCLK (in), 21 ~{DCDB} (in), 22 ~{CTSB} (in), 23 ~{RTSB} (out), 24 ~{DTR}/~{REQB} (out), 25 TxDB (out), 26 ~{TRxCB} (io), 27 RxDB (in), 28 ~{RTxCB} (in), 29 ~{SYNCB} (io), 30 ~{W}/~{REQB} (oc), 31 GND (power), 32 D/~{C} (in), 33 ~{CE} (in), 34 A/~{B} (in), 35 ~{WR} (in), 36 ~{RD} (in), 37 D6 (io), 38 D4 (io), 39 D2 (io), 40 D0 (io)

## Z0853006PEC
designator U?
Serial Communications Controller; Published: 15-Apr-2002; LatestRevisionDate: 04-Mar-2005; LatestRevisionNote: Stylized 3D Model Added.; DatasheetVersion: 2001; PackageVersion: Jun-1999; PackageReference: PDIP40; Publisher: Altium Limited; PackageDescription: DIP; 40 Leads; Row Spacing 15.24 mm; Pitch 2.54 mm; ComponentLink1Description: Manufacturer Link; ComponentLink1URL: http://www.zilog.com/; ComponentLink2Description: Datasheet; ComponentLink2URL: http://www.zilog.com/docs/serial/scc_escc_um.pdf
footprint PDIP40 (DIP; 40 Leads; Row Spacing 15.24 mm; Pitch 2.54 mm)
3D model PDIP40 (DIP; 40 Leads; Row Spacing 15.24 mm; Pitch 2.54 mm)
pins: 1 D1 (io), 2 D3 (io), 3 D5 (io), 4 D7 (io), 5 ~{INT} (oc), 6 IEO (out), 7 IEI (in), 8 ~{INTACK} (in), 9 VCC (power), 10 ~{W}/~{REQA} (oc), 11 ~{SYNCA} (io), 12 ~{RTxCA} (in), 13 RxDA (in), 14 ~{TRxCA} (io), 15 TxDA (out), 16 ~{DTR}/~{REQA} (out), 17 ~{RTSA} (out), 18 ~{CTSA} (in), 19 ~{DCDA} (in), 20 PCLK (in), 21 ~{DCDB} (in), 22 ~{CTSB} (in), 23 ~{RTSB} (out), 24 ~{DTR}/~{REQB} (out), 25 TxDB (out), 26 ~{TRxCB} (io), 27 RxDB (in), 28 ~{RTxCB} (in), 29 ~{SYNCB} (io), 30 ~{W}/~{REQB} (oc), 31 GND (power), 32 D/~{C} (in), 33 ~{CE} (in), 34 A/~{B} (in), 35 ~{WR} (in), 36 ~{RD} (in), 37 D6 (io), 38 D4 (io), 39 D2 (io), 40 D0 (io)

## Z0853006PSC
designator U?
Serial Communications Controller; Published: 15-Apr-2002; LatestRevisionDate: 04-Mar-2005; LatestRevisionNote: Stylized 3D Model Added.; DatasheetVersion: 2001; PackageVersion: Jun-1999; PackageReference: PDIP40; Publisher: Altium Limited; PackageDescription: DIP; 40 Leads; Row Spacing 15.24 mm; Pitch 2.54 mm; ComponentLink1Description: Manufacturer Link; ComponentLink1URL: http://www.zilog.com/; ComponentLink2Description: Datasheet; ComponentLink2URL: http://www.zilog.com/docs/serial/scc_escc_um.pdf
footprint PDIP40 (DIP; 40 Leads; Row Spacing 15.24 mm; Pitch 2.54 mm)
3D model PDIP40 (DIP; 40 Leads; Row Spacing 15.24 mm; Pitch 2.54 mm)
pins: 1 D1 (io), 2 D3 (io), 3 D5 (io), 4 D7 (io), 5 ~{INT} (oc), 6 IEO (out), 7 IEI (in), 8 ~{INTACK} (in), 9 VCC (power), 10 ~{W}/~{REQA} (oc), 11 ~{SYNCA} (io), 12 ~{RTxCA} (in), 13 RxDA (in), 14 ~{TRxCA} (io), 15 TxDA (out), 16 ~{DTR}/~{REQA} (out), 17 ~{RTSA} (out), 18 ~{CTSA} (in), 19 ~{DCDA} (in), 20 PCLK (in), 21 ~{DCDB} (in), 22 ~{CTSB} (in), 23 ~{RTSB} (out), 24 ~{DTR}/~{REQB} (out), 25 TxDB (out), 26 ~{TRxCB} (io), 27 RxDB (in), 28 ~{RTxCB} (in), 29 ~{SYNCB} (io), 30 ~{W}/~{REQB} (oc), 31 GND (power), 32 D/~{C} (in), 33 ~{CE} (in), 34 A/~{B} (in), 35 ~{WR} (in), 36 ~{RD} (in), 37 D6 (io), 38 D4 (io), 39 D2 (io), 40 D0 (io)

## Z0853006VSC
designator U?
Serial Communications Controller; Published: 15-Apr-2002; LatestRevisionDate: 13-Apr-2006; LatestRevisionNote: IPC-7351 Footprint Added.; DatasheetVersion: 2001; PackageReference: PCC44; Publisher: Altium Limited; PackageDescription: 44-Pin Leaded Chip Carrier 1.27 mm Pitch; Code_IPC: PLCC-44; ComponentLink1Description: Manufacturer Link; ComponentLink1URL: http://www.zilog.com/; ComponentLink2Description: Datasheet; ComponentLink2URL: http://www.zilog.com/docs/serial/scc_escc_um.pdf
footprint PCC44_N (Leaded Chip Carrier, 44-Leads, Body 16.6x16.6mm, Pitch 1.27mm, IPC Medium Density)
footprint PCC44_L (Leaded Chip Carrier, 44-Leads, Body 16.6x16.6mm, Pitch 1.27mm, IPC High Density)
footprint PCC44_M (Leaded Chip Carrier, 44-Leads, Body 16.6x16.6mm, Pitch 1.27mm, IPC Low Density)
3D model Z08530-PCC44 (44-Pin Leaded Chip Carrier 1.27 mm Pitch)
pins: 1 D0 (io), 2 D1 (io), 3 D3 (io), 4 D5 (io), 5 D7 (io), 6 ~{INT} (oc), 7 IEO (out), 8 IEI (in), 9 ~{INTACK} (in), 10 VCC (power), 11 ~{W}/~{REQA} (oc), 12 ~{SYNCA} (io), 13 ~{RTxCA} (in), 14 RxDA (in), 15 ~{TRxCA} (io), 16 TxDA (out), 17 NC, 18 NC, 19 ~{DTR}/~{REQA} (out), 20 ~{RTSA} (out), 21 ~{CTSA} (in), 22 ~{DCDA} (in), 23 PCLK (in), 24 ~{DCDB} (in), 25 ~{CTSB} (in), 26 ~{RTSB} (out), 27 ~{DTR}/~{REQB} (out), 28 NC, 29 TxDB (out), 30 ~{TRxCB} (io), 31 RxDB (in), 32 ~{RTxCB} (in), 33 ~{SYNCB} (io), 34 ~{W}/~{REQB} (oc), 35 GND (power), 36 NC, 37 D/~{C} (in), 38 ~{CE} (in), 39 A/~{B} (in), 40 ~{WR} (in), 41 ~{RD} (in), 42 D6 (io), 43 D4 (io), 44 D2 (io)

## Z0853008DSC
designator U?
Serial Communications Controller; Published: 15-Apr-2002; LatestRevisionDate: 04-Mar-2005; LatestRevisionNote: Stylized 3D Model Added.; DatasheetVersion: 2001; PackageVersion: 1999; PackageReference: CerDIP40; Publisher: Altium Limited; PackageDescription: DIP; 40 Leads; Row Spacing 15.24 mm; Pitch 2.54 mm; ComponentLink1Description: Manufacturer Link; ComponentLink1URL: http://www.zilog.com/; ComponentLink2Description: Datasheet; ComponentLink2URL: http://www.zilog.com/docs/serial/scc_escc_um.pdf
footprint CerDIP40 (DIP; 40 Leads; Row Spacing 15.24 mm; Pitch 2.54 mm)
3D model PDIP40 (DIP; 40 Leads; Row Spacing 15.24 mm; Pitch 2.54 mm)
pins: 1 D1 (io), 2 D3 (io), 3 D5 (io), 4 D7 (io), 5 ~{INT} (oc), 6 IEO (out), 7 IEI (in), 8 ~{INTACK} (in), 9 VCC (power), 10 ~{W}/~{REQA} (oc), 11 ~{SYNCA} (io), 12 ~{RTxCA} (in), 13 RxDA (in), 14 ~{TRxCA} (io), 15 TxDA (out), 16 ~{DTR}/~{REQA} (out), 17 ~{RTSA} (out), 18 ~{CTSA} (in), 19 ~{DCDA} (in), 20 PCLK (in), 21 ~{DCDB} (in), 22 ~{CTSB} (in), 23 ~{RTSB} (out), 24 ~{DTR}/~{REQB} (out), 25 TxDB (out), 26 ~{TRxCB} (io), 27 RxDB (in), 28 ~{RTxCB} (in), 29 ~{SYNCB} (io), 30 ~{W}/~{REQB} (oc), 31 GND (power), 32 D/~{C} (in), 33 ~{CE} (in), 34 A/~{B} (in), 35 ~{WR} (in), 36 ~{RD} (in), 37 D6 (io), 38 D4 (io), 39 D2 (io), 40 D0 (io)

## Z0853008PSC
designator U?
Serial Communications Controller; Published: 15-Apr-2002; LatestRevisionDate: 04-Mar-2005; LatestRevisionNote: Stylized 3D Model Added.; DatasheetVersion: 2001; PackageVersion: Jun-1999; PackageReference: PDIP40; Publisher: Altium Limited; PackageDescription: DIP; 40 Leads; Row Spacing 15.24 mm; Pitch 2.54 mm; ComponentLink1Description: Manufacturer Link; ComponentLink1URL: http://www.zilog.com/; ComponentLink2Description: Datasheet; ComponentLink2URL: http://www.zilog.com/docs/serial/scc_escc_um.pdf
footprint PDIP40 (DIP; 40 Leads; Row Spacing 15.24 mm; Pitch 2.54 mm)
3D model PDIP40 (DIP; 40 Leads; Row Spacing 15.24 mm; Pitch 2.54 mm)
pins: 1 D1 (io), 2 D3 (io), 3 D5 (io), 4 D7 (io), 5 ~{INT} (oc), 6 IEO (out), 7 IEI (in), 8 ~{INTACK} (in), 9 VCC (power), 10 ~{W}/~{REQA} (oc), 11 ~{SYNCA} (io), 12 ~{RTxCA} (in), 13 RxDA (in), 14 ~{TRxCA} (io), 15 TxDA (out), 16 ~{DTR}/~{REQA} (out), 17 ~{RTSA} (out), 18 ~{CTSA} (in), 19 ~{DCDA} (in), 20 PCLK (in), 21 ~{DCDB} (in), 22 ~{CTSB} (in), 23 ~{RTSB} (out), 24 ~{DTR}/~{REQB} (out), 25 TxDB (out), 26 ~{TRxCB} (io), 27 RxDB (in), 28 ~{RTxCB} (in), 29 ~{SYNCB} (io), 30 ~{W}/~{REQB} (oc), 31 GND (power), 32 D/~{C} (in), 33 ~{CE} (in), 34 A/~{B} (in), 35 ~{WR} (in), 36 ~{RD} (in), 37 D6 (io), 38 D4 (io), 39 D2 (io), 40 D0 (io)

## Z0853008VSC
designator U?
Serial Communications Controller; Published: 15-Apr-2002; LatestRevisionDate: 13-Apr-2006; LatestRevisionNote: IPC-7351 Footprint Added.; DatasheetVersion: 2001; PackageReference: PCC44; Publisher: Altium Limited; PackageDescription: 44-Pin Leaded Chip Carrier 1.27 mm Pitch; Code_IPC: PLCC-44; ComponentLink1Description: Manufacturer Link; ComponentLink1URL: http://www.zilog.com/; ComponentLink2Description: Datasheet; ComponentLink2URL: http://www.zilog.com/docs/serial/scc_escc_um.pdf
footprint PCC44_N (Leaded Chip Carrier, 44-Leads, Body 16.6x16.6mm, Pitch 1.27mm, IPC Medium Density)
footprint PCC44_L (Leaded Chip Carrier, 44-Leads, Body 16.6x16.6mm, Pitch 1.27mm, IPC High Density)
footprint PCC44_M (Leaded Chip Carrier, 44-Leads, Body 16.6x16.6mm, Pitch 1.27mm, IPC Low Density)
3D model Z08530-PCC44 (44-Pin Leaded Chip Carrier 1.27 mm Pitch)
pins: 1 D0 (io), 2 D1 (io), 3 D3 (io), 4 D5 (io), 5 D7 (io), 6 ~{INT} (oc), 7 IEO (out), 8 IEI (in), 9 ~{INTACK} (in), 10 VCC (power), 11 ~{W}/~{REQA} (oc), 12 ~{SYNCA} (io), 13 ~{RTxCA} (in), 14 RxDA (in), 15 ~{TRxCA} (io), 16 TxDA (out), 17 NC, 18 NC, 19 ~{DTR}/~{REQA} (out), 20 ~{RTSA} (out), 21 ~{CTSA} (in), 22 ~{DCDA} (in), 23 PCLK (in), 24 ~{DCDB} (in), 25 ~{CTSB} (in), 26 ~{RTSB} (out), 27 ~{DTR}/~{REQB} (out), 28 NC, 29 TxDB (out), 30 ~{TRxCB} (io), 31 RxDB (in), 32 ~{RTxCB} (in), 33 ~{SYNCB} (io), 34 ~{W}/~{REQB} (oc), 35 GND (power), 36 NC, 37 D/~{C} (in), 38 ~{CE} (in), 39 A/~{B} (in), 40 ~{WR} (in), 41 ~{RD} (in), 42 D6 (io), 43 D4 (io), 44 D2 (io)